# Altium footprint library MSOP-10.PcbLib: 1 footprints
Each footprint in its own frame and in the unit in brackets; x right, y up, seen from the top. Pads: shape width x height; smd on the part's side, far side on the other; paste and mask are expansions set on the pad; w line width, h text height; cw(c..) or ccw(c..) is an arc to the next point about the centre after c.
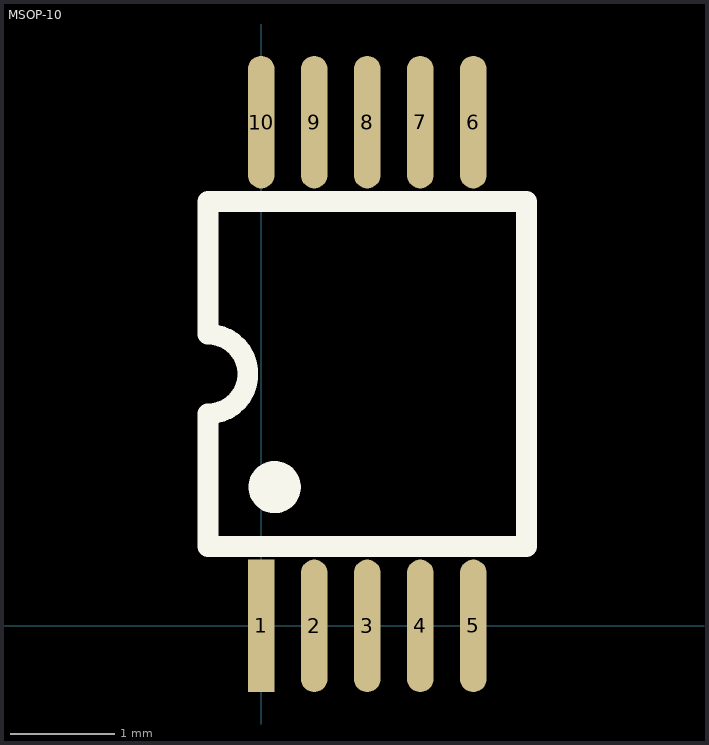
[diagram p0: the footprint, top view; thin cyan lines are the x and y axes]

## MSOP-10 [mil] "10-Lead Mini Small Outline Package"
height 40
pads (10):
  rect 10x50 smd: 1(0,0)
  oval 10x50 smd: 2(20,0) 3(40,0) 4(60,0) 5(80,0) 6(80,190) 7(60,190) 8(40,190) 9(20,190) 10(0,190)
Top Overlay:
  circle w9.84: c5.08,52.36 r4.92
  lines w7.87: -20,30 -20,80 ccw(c-20,95) -20,110 -20,160 100,160 100,30 -20,30
3D body "MSOP-10.STEP": height 42.32, standoff -0.79, extent -22.99,-6.37 103,196.38